# Altium schematic symbol library D_SHKY_a.Schlib: 1 symbol
Pins are listed as number, name and electrical type; pins without a type are passive.

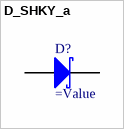
[diagram p0: symbol D_SHKY_a]

## D_SHKY_a
designator D?
Schottky Barrier Diode
pins: 1 A, 2 K